# EAGLE library part MIRROR_H_MOTOR (library Marvelous)
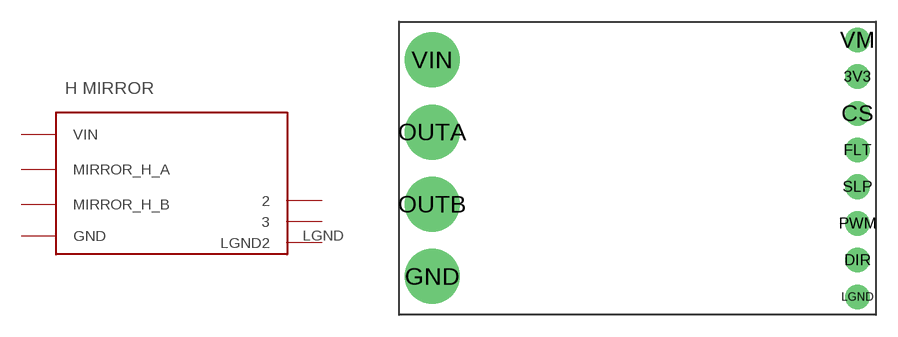
[diagram p2: symbol with the pads of POLOLU; footprint POLOLU]

Designator prefix -

## MIRROR_H_MOTOR  [POLOLU]
DIR  3
GND  GND
LGND  LGND2
OUTA  MIRROR_H_A
OUTB  MIRROR_H_B
PWM  2
VIN  VIN

## Footprint POLOLU (pad centres in mm)
drill 1.1 pad 1.7: 3V3 15.23,6.34; CS 15.23,3.8; DIR 15.23,-6.36; FLT 15.23,1.26; LGND 15.23,-8.9; PWM 15.23,-3.82; SLP 15.23,-1.28; VM 15.23,8.88
drill 2.184 pad 3.81: GND -14.21,-7.49; OUTA -14.21,2.51; OUTB -14.21,-2.49; VIN -14.21,7.51